# Altium schematic symbol library IC_SSR_NO_SMD.SchLib: 1 symbol
Pins are listed as number, name and electrical type; pins without a type are passive.

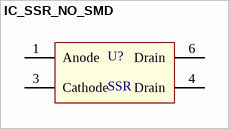
[diagram p0: symbol IC_SSR_NO_SMD]

## IC_SSR_NO_SMD
designator U?, comment SSR
Solid State SPST-NO (1 Form A) 6-SMD, Gull Wing; Supplier 1: Digi-Key; Supplier Part Number 1: 264-TLP170AM(V4TPLECT-ND
footprint IC_SSR_NO_SMD (Solid State SPST-NO (1 Form A) 6-SMD, Gull Wing)
pins: 1 Anode, 3 Cathode, 4 Drain, 6 Drain